# EAGLE library part NERDSHIELD (library NerduinoShieldLib)
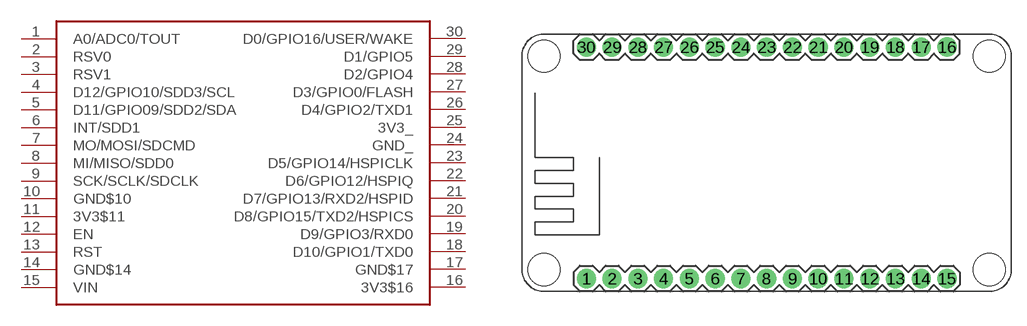
[diagram p1: symbol with the pads of NERDUINO_STACK; footprint NERDUINO_STACK]

Designator prefix -

## NERDSHIELD  [NERDUINO_STACK]
1  A0/ADC0/TOUT
2  RSV0
3  RSV1
4  D12/GPIO10/SDD3/SCL
5  D11/GPIO09/SDD2/SDA
6  INT/SDD1
7  MO/MOSI/SDCMD
8  MI/MISO/SDD0
9  SCK/SCLK/SDCLK
10  GND$10
11  3V3$11
12  EN
13  RST
14  GND$14
15  VIN
16  3V3$16
17  GND$17
18  D10/GPIO1/TXD0
19  D9/GPIO3/RXD0
20  D8/GPIO15/TXD2/HSPICS
21  D7/GPIO13/RXD2/HSPID
22  D6/GPIO12/HSPIQ
23  D5/GPIO14/HSPICLK
24  GND_
25  3V3_
26  D4/GPIO2/TXD1
27  D3/GPIO0/FLASH
28  D2/GPIO4
29  D1/GPIO5
30  D0/GPIO16/USER/WAKE

## Footprint NERDUINO_STACK (pad centres in mm)
drill 1.016 pad 1.88: 1 -17.78,-5.08; 2 -15.24,-5.08; 3 -12.7,-5.08; 4 -10.16,-5.08; 5 -7.62,-5.08; 6 -5.08,-5.08; 7 -2.54,-5.08; 8 0,-5.08; 9 2.54,-5.08; 10 5.08,-5.08; 11 7.62,-5.08; 12 10.16,-5.08; 13 12.7,-5.08; 14 15.24,-5.08; 17 15.24,17.78; 18 12.7,17.78; 19 10.16,17.78; 20 7.62,17.78; 21 5.08,17.78; 22 2.54,17.78; 23 0,17.78; 24 -2.54,17.78; 25 -5.08,17.78; 26 -7.62,17.78; 27 -10.16,17.78; 28 -12.7,17.78; 29 -15.24,17.78; 30 -17.78,17.78
drill 1 pad 1.93: 15 17.78,-5.08; 16 17.78,17.78
hole 3.175 at -21.971,16.891
hole 3.175 at -21.971,-4.191
hole 3.175 at 21.971,-4.191
hole 3.175 at 21.971,16.891